# EAGLE library part LIBRE_DAQ (library ecar)
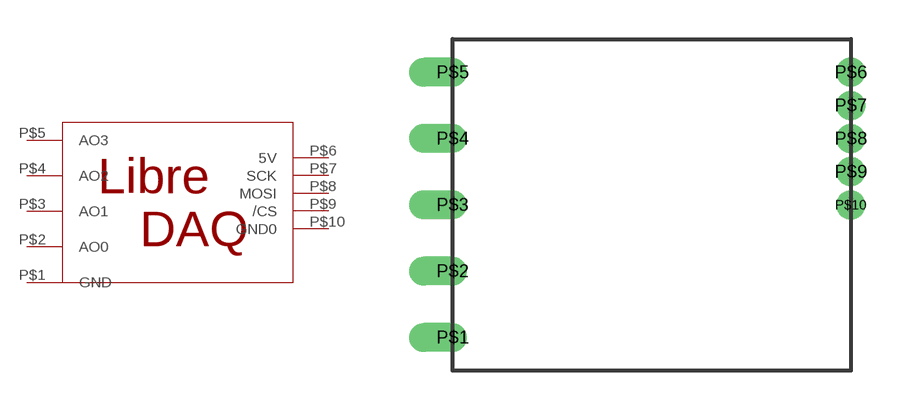
[diagram p16: symbol with the pads of LIBRE_DAQ; footprint LIBRE_DAQ]

Designator prefix -

## LIBRE_DAQ  [LIBRE_DAQ]
P$1  GND
P$2  AO0
P$3  AO1
P$4  AO2
P$5  AO3
P$6  5V
P$7  SCK
P$8  MOSI
P$9  /CS
P$10  GND0

## Footprint LIBRE_DAQ (pad centres in mm)
drill 0.6 offset: P$1 0,0; P$2 0,2.54; P$3 0,5.08; P$4 0,7.62; P$5 0,10.16
drill 0.6: P$6 15.24,10.16; P$7 15.24,8.89; P$8 15.24,7.62; P$9 15.24,6.35; P$10 15.24,5.08